# EAGLE library part R5F211A (library micro-renesas)
16-BIT SINGLE-CHIP MICROCOMPUTER M16C FAMILY / R8C/Tiny SERIES Source: Renesas .. rej09b0252_r8c1a1bhm.pdf
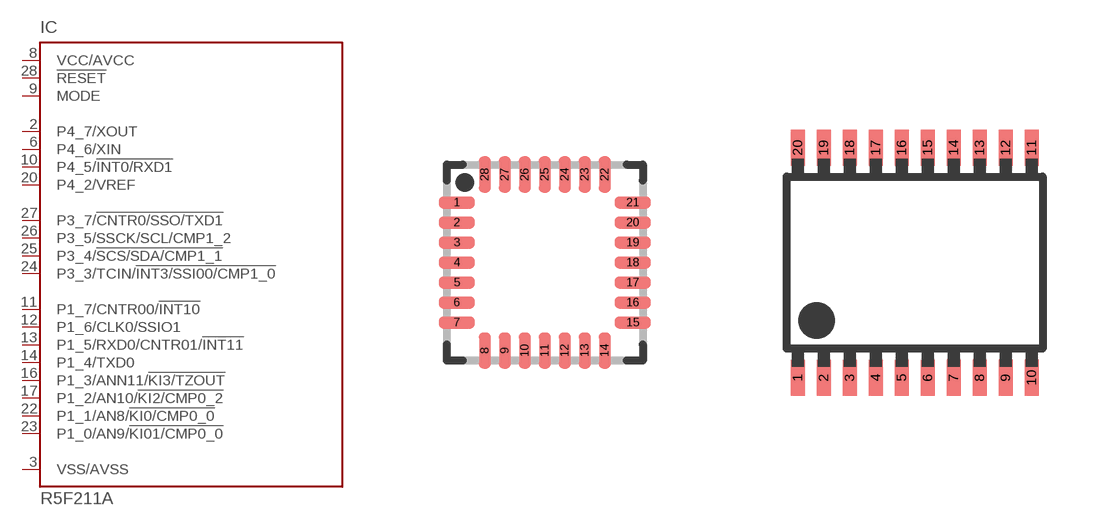
[diagram p0: symbol with the pads of PWQN0028KA-B; footprints PWQN0028KA-B, PLSP0020JB-A]

Designator prefix IC

## R5F211A2NP (OC_FARNELL: unknown; OC_NEWARK: unknown), R5F211A3NP (OC_FARNELL: unknown; OC_NEWARK: unknown), R5F211A4NP (OC_FARNELL: unknown; OC_NEWARK: unknown)  [PWQN0028KA-B]
2  P4_7/XOUT
3  VSS/AVSS  in
6  P4_6/XIN
8  VCC/AVCC  in
9  MODE  in
10  P4_5/!INT0/RXD1
11  P1_7/CNTR00/!INT10
12  P1_6/CLK0/SSIO1
13  P1_5/RXD0/CNTR01/!INT11
14  P1_4/TXD0
16  P1_3/ANN11/!KI3/TZOUT
17  P1_2/AN10/!KI2/CMP0_2
20  P4_2/VREF  in
22  P1_1/AN8/!KI0/CMP0_0
23  P1_0/AN9/!KI01/CMP0_0
24  P3_3/TCIN/!INT3/SSI00/CMP1_0
25  P3_4/!SCS/SDA/CMP1_1
26  P3_5/SSCK/SCL/CMP1_2
27  P3_7/!CNTR0/SSO/TXD1
28  !RESET  in

## R5F211A1SP (OC_FARNELL: unknown; OC_NEWARK: unknown), R5F211A1DSP (OC_FARNELL: unknown; OC_NEWARK: unknown), R5F211A2SP (OC_FARNELL: unknown; OC_NEWARK: unknown), R5F211A2DSP (OC_FARNELL: unknown; OC_NEWARK: unknown), R5F211A3SP (OC_FARNELL: unknown; OC_NEWARK: unknown), R5F211A3DSP (OC_FARNELL: unknown; OC_NEWARK: unknown), R5F211A4SP (MPN: R5F211A4SP#U0; OC_FARNELL: 1677765; OC_NEWARK: 40P3229), R5F211A4DSP (OC_FARNELL: unknown; OC_NEWARK: unknown)  [PLSP0020JB-A]
1  P3_5/SSCK/SCL/CMP1_2
2  P3_7/!CNTR0/SSO/TXD1
3  !RESET  in
4  P4_7/XOUT
5  VSS/AVSS  in
6  P4_6/XIN
7  VCC/AVCC  in
8  MODE  in
9  P4_5/!INT0/RXD1
10  P1_7/CNTR00/!INT10
11  P1_6/CLK0/SSIO1
12  P1_5/RXD0/CNTR01/!INT11
13  P1_4/TXD0
14  P1_3/ANN11/!KI3/TZOUT
15  P1_2/AN10/!KI2/CMP0_2
16  P4_2/VREF  in
17  P1_1/AN8/!KI0/CMP0_0
18  P1_0/AN9/!KI01/CMP0_0
19  P3_3/TCIN/!INT3/SSI00/CMP1_0
20  P3_4/!SCS/SDA/CMP1_1

## R5F211A1DD (OC_FARNELL: unknown; OC_NEWARK: unknown), R5F211A2DD (OC_FARNELL: unknown; OC_NEWARK: unknown), R5F211A3DD (OC_FARNELL: unknown; OC_NEWARK: unknown), R5F211A4DD (OC_FARNELL: unknown; OC_NEWARK: unknown)  [PRDP0020BA-A]
Pads as for PLSP0020JB-A

## Footprint PWQN0028KA-B (pad centres in mm)
P-HWQFN28-5x5-0.50 Source: Renesas .. rej09b0252_r8c1a1bhm.pdf
smd 0.9 x 0.3: 1 -2.2,1.5; 2 -2.2,1; 3 -2.2,0.5; 4 -2.2,0; 5 -2.2,-0.5; 6 -2.2,-1; 7 -2.2,-1.5; 15 2.2,-1.5; 16 2.2,-1; 17 2.2,-0.5; 18 2.2,0; 19 2.2,0.5; 20 2.2,1; 21 2.2,1.5
smd 0.3 x 0.9: 8 -1.5,-2.2; 9 -1,-2.2; 10 -0.5,-2.2; 11 0,-2.2; 12 0.5,-2.2; 13 1,-2.2; 14 1.5,-2.2; 22 1.5,2.2; 23 1,2.2; 24 0.5,2.2; 25 0,2.2; 26 -0.5,2.2; 27 -1,2.2; 28 -1.5,2.2

## Footprint PLSP0020JB-A (pad centres in mm)
P-LSSOP20-4.4x6.5-0.65 Source: Renesas .. rej09b0252_r8c1a1bhm.pdf
smd 0.35 x 0.9: 1 -2.925,-2.875; 2 -2.275,-2.875; 3 -1.625,-2.875; 4 -0.975,-2.875; 5 -0.325,-2.875; 6 0.325,-2.875; 7 0.975,-2.875; 8 1.625,-2.875; 9 2.275,-2.875; 10 2.925,-2.875; 11 2.925,2.875; 12 2.275,2.875; 13 1.625,2.875; 14 0.975,2.875; 15 0.325,2.875; 16 -0.325,2.875; 17 -0.975,2.875; 18 -1.625,2.875; 19 -2.275,2.875; 20 -2.925,2.875

## Footprint PRDP0020BA-A (pad centres in mm)
P-SDIP20-6.3x19-1.78 Source: Renesas .. rej09b0252_r8c1a1bhm.pdf
drill 0.8 pad 1.27 round: 1 -8.001,-3.81; 2 -6.223,-3.81; 3 -4.445,-3.81; 4 -2.667,-3.81; 5 -0.889,-3.81; 6 0.889,-3.81; 7 2.667,-3.81; 8 4.445,-3.81; 9 6.223,-3.81; 10 8.001,-3.81; 11 8.001,3.81; 12 6.223,3.81; 13 4.445,3.81; 14 2.667,3.81; 15 0.889,3.81; 16 -0.889,3.81; 17 -2.667,3.81; 18 -4.445,3.81; 19 -6.223,3.81; 20 -8.001,3.81